# Altium integrated library Libray.IntLib: 16 symbols
Pins are listed as number, name and electrical type; pins without a type are passive.

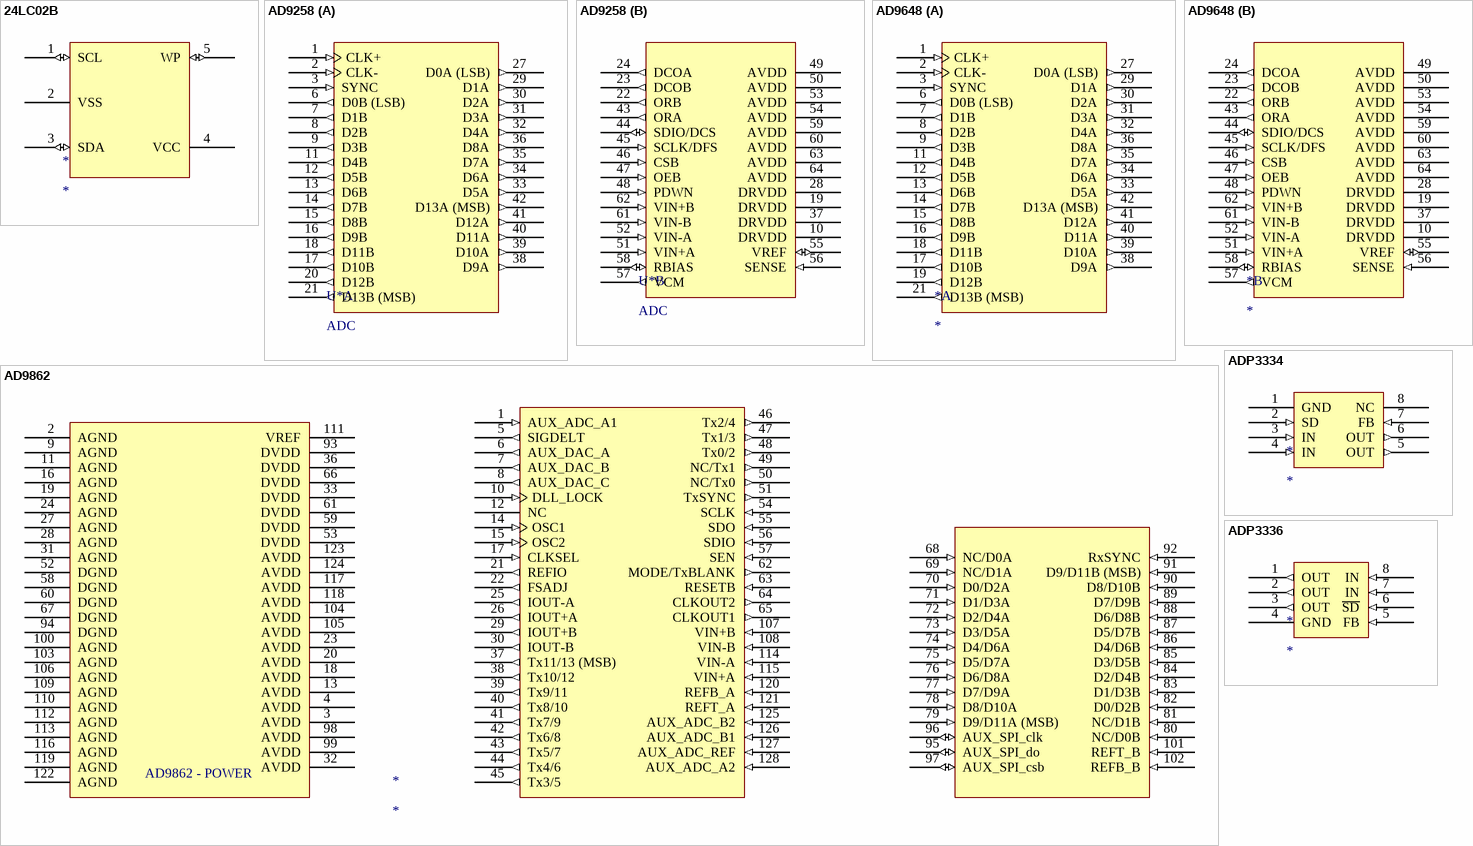
[diagram p0: symbols 24LC02B to ADP3336]

## 24LC02B
designator *
footprint SOT23-6_M (Footprint not found)
pins: 1 SCL (io), 2 VSS (power), 3 SDA (io), 4 VCC (power), 5 WP (io)

## AD9258
designator U*, comment ADC
14-Bit, 80 MSPS/105 MSPS/125 MSPS, 1.8 V Dual  Analog-to-Digital Converter (ADC); ComponentLink1URL: http://www.analog.com/static/imported-files/data_sheets/AD9258.pdf; ComponentLink1Description: Datasheet
footprint QFN50P900X900X100-65V (QFN, 64-Leads, Body 9x9mm, Pitch 0.50mm, AD Recommended)
part A pins: 1 CLK+ (in), 2 CLK- (in), 3 SYNC (in), 6 D0B (LSB) (out), 7 D1B (out), 8 D2B (out), 9 D3B (out), 11 D4B (out), 12 D5B (out), 13 D6B (out), 14 D7B (out), 15 D8B (out), 16 D9B (out), 17 D10B (out), 18 D11B (out), 20 D12B (out), 21 D13B (MSB) (out), 27 D0A (LSB) (out), 29 D1A (out), 30 D2A (out), 31 D3A (out), 32 D4A (out), 33 D5A (out), 34 D6A (out), 35 D7A (out), 36 D8A (out), 38 D9A (out), 39 D10A (out), 40 D11A (out), 41 D12A (out), 42 D13A (MSB) (out)
part B pins: 10 DRVDD (power), 19 DRVDD (power), 22 ORB (out), 23 DCOB (out), 24 DCOA (out), 28 DRVDD (power), 37 DRVDD (power), 43 ORA (out), 44 SDIO/DCS (io), 45 SCLK/DFS (in), 46 CSB (in), 47 OEB (in), 48 PDWN (in), 49 AVDD (power), 50 AVDD (power), 51 VIN+A (in), 52 VIN-A (in), 53 AVDD (power), 54 AVDD (power), 55 VREF (io), 56 SENSE (in), 57 VCM (out), 58 RBIAS (io), 59 AVDD (power), 60 AVDD (power), 61 VIN-B (in), 62 VIN+B (in), 63 AVDD (power), 64 AVDD (power)

## AD9648
designator *
footprint QFN50P900X900X100-65V (QFN, 64-Leads, Body 9x9mm, Pitch 0.50mm, AD Recommended)
part A pins: 1 CLK+ (in), 2 CLK- (in), 3 SYNC (in), 6 D0B (LSB) (out), 7 D1B (out), 8 D2B (out), 9 D3B (out), 11 D4B (out), 12 D5B (out), 13 D6B (out), 14 D7B (out), 15 D8B (out), 16 D9B (out), 17 D10B (out), 18 D11B (out), 19 D12B (out), 21 D13B (MSB) (out), 27 D0A (LSB) (out), 29 D1A (out), 30 D2A (out), 31 D3A (out), 32 D4A (out), 33 D5A (out), 34 D6A (out), 35 D7A (out), 36 D8A (out), 38 D9A (out), 39 D10A (out), 40 D11A (out), 41 D12A (out), 42 D13A (MSB) (out)
part B pins: 10 DRVDD (power), 19 DRVDD (power), 22 ORB (out), 23 DCOB (out), 24 DCOA (out), 28 DRVDD (power), 37 DRVDD (power), 43 ORA (out), 44 SDIO/DCS (io), 45 SCLK/DFS (in), 46 CSB (in), 47 OEB (in), 48 PDWN (in), 49 AVDD (power), 50 AVDD (power), 51 VIN+A (in), 52 VIN-A (in), 53 AVDD (power), 54 AVDD (power), 55 VREF (io), 56 SENSE (in), 57 VCM (out), 58 RBIAS (io), 59 AVDD (power), 60 AVDD (power), 61 VIN-B (in), 62 VIN+B (in), 63 AVDD (power), 64 AVDD (power)

## AD9862
designator *
footprint TSQFP40P1600X1600-128M (Thin QFP, 128-Leads, Body 14x14mm, Pitch 0.4mm, IPC Low Density)
pins: 1 AUX_ADC_A1 (in), 2 AGND (power), 3 AVDD (power), 4 AVDD (power), 5 SIGDELT (out), 6 AUX_DAC_A (out), 7 AUX_DAC_B (out), 8 AUX_DAC_C (out), 9 AGND (power), 10 DLL_LOCK (in), 11 AGND (power), 12 NC, 13 AVDD (power), 14 OSC1 (in), 15 OSC2 (in), 16 AGND (power), 17 CLKSEL (in), 18 AVDD (power), 19 AGND (power), 20 AVDD (power), 21 REFIO (out), 22 FSADJ (out), 23 AVDD (power), 24 AGND (power), 25 IOUT-A (out), 26 IOUT+A (out), 27 AGND (power), 28 AGND (power), 29 IOUT+B (out), 30 IOUT-B (out), 31 AGND (power), 32 AVDD (power), 33 DVDD (power), 36 DVDD (power), 37 Tx11/13 (MSB) (out), 38 Tx10/12 (out), 39 Tx9/11 (out), 40 Tx8/10 (out), 41 Tx7/9 (out), 42 Tx6/8 (out), 43 Tx5/7 (out), 44 Tx4/6 (out), 45 Tx3/5 (out), 46 Tx2/4 (out), 47 Tx1/3 (out), 48 Tx0/2 (out), 49 NC/Tx1 (out), 50 NC/Tx0 (out), 51 TxSYNC (out), 52 DGND (power), 53 DVDD (power), 54 SCLK (in), 55 SDO (in), 56 SDIO (in), 57 SEN (in), 58 DGND (power), 59 DVDD (power), 60 DGND (power), 61 DVDD (power), 62 MODE/TxBLANK (out), 63 RESETB (in), 64 CLKOUT2 (out), 65 CLKOUT1 (out), 66 DVDD, 67 DGND (power), 68 NC/D0A (in), 69 NC/D1A (in), 70 D0/D2A (in), 71 D1/D3A (in), 72 D2/D4A (in), 73 D3/D5A (in), 74 D4/D6A (in), 75 D5/D7A (in), 76 D6/D8A (in), 77 D7/D9A (in), 78 D8/D10A (in), 79 D9/D11A (MSB) (in), 80 NC/D0B (in), 81 NC/D1B (in), 82 D0/D2B (in), 83 D1/D3B (in), 84 D2/D4B (in), 85 D3/D5B (in), 86 D4/D6B (in), 87 D5/D7B (in), 88 D6/D8B (in), 89 D7/D9B (in), 90 D8/D10B (in), 91 D9/D11B (MSB) (in), 92 RxSYNC (in), 93 DVDD (power), 94 DGND (power), 95 AUX_SPI_do (io), 96 AUX_SPI_clk (io), 97 AUX_SPI_csb (io), 98 AVDD (power), 99 AVDD (power), 100 AGND (power), 101 REFT_B (in), 102 REFB_B (in), 103 AGND (power), 104 AVDD (power), 105 AVDD (power), 106 AGND (power), 107 VIN+B (in), 108 VIN-B (in), 109 AGND (power), 110 AGND (power), 111 VREF (power), 112 AGND (power), 113 AGND (power), 114 VIN-A (in), 115 VIN+A (in), 116 AGND (power), 117 AVDD (power), 118 AVDD (power), 119 AGND (power), 120 REFB_A (in), 121 REFT_A (in), 122 AGND (power), 123 AVDD (power), 124 AVDD (power), 125 AUX_ADC_B2 (in), 126 AUX_ADC_B1 (in), 127 AUX_ADC_REF (in), 128 AUX_ADC_A2 (in)
text: AD9862 - POWER

## ADP3334
designator *
footprint SOP8
pins: 1 GND (power), 2 SD (in), 3 IN (in), 4 IN (in), 5 OUT (out), 6 OUT (out), 7 FB (in), 8 NC

## ADP3336
designator *
footprint SOIC127P600-8CM (SOIC, 8-Leads, Body 4.9x3.9mm, Pitch 1.27mm, IPC Low Density)
pins: 1 OUT (out), 2 OUT (out), 3 OUT (out), 4 GND (power), 5 FB (in), 6 ~{SD} (in), 7 IN (in), 8 IN (in)

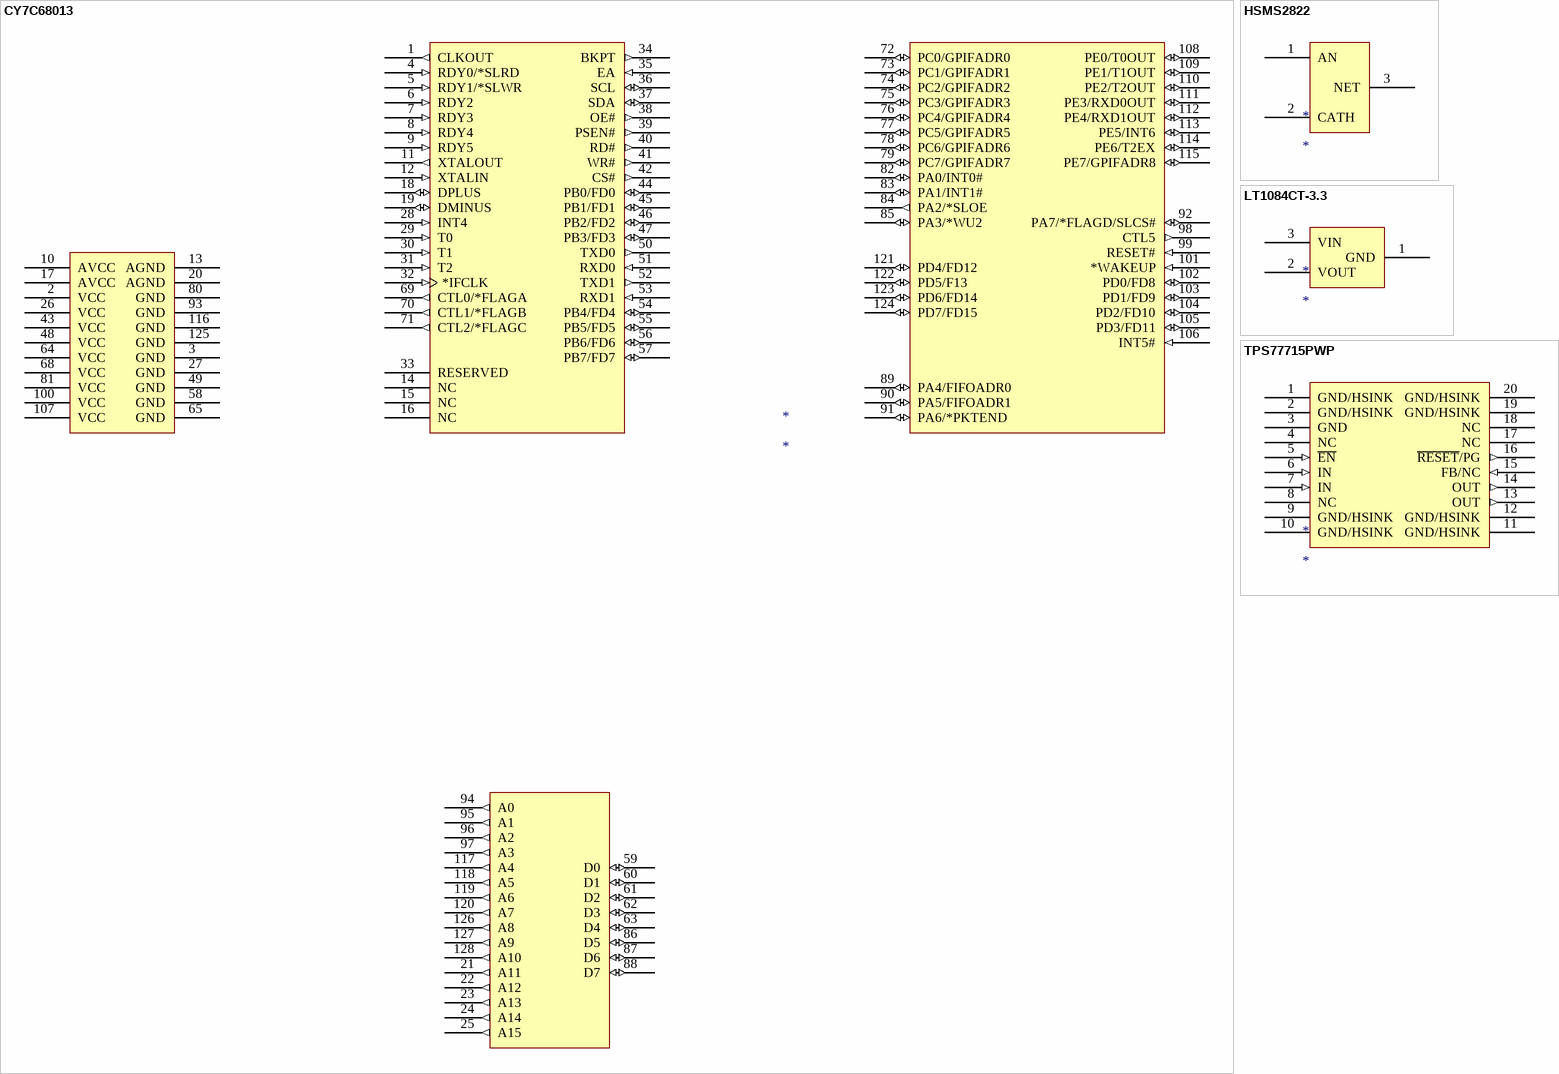
[diagram p1: symbols CY7C68013 to TPS77715PWP]

## CY7C68013
designator *
footprint TSQFP40P1600X1600-128M (Thin QFP, 128-Leads, Body 14x14mm, Pitch 0.4mm, IPC Low Density)
pins: 1 CLKOUT (out), 2 VCC (power), 3 GND (power), 4 RDY0/*SLRD (in), 5 RDY1/*SLWR (in), 6 RDY2 (in), 7 RDY3 (in), 8 RDY4 (in), 9 RDY5 (in), 10 AVCC (power), 11 XTALOUT (out), 12 XTALIN (in), 13 AGND (power), 14 NC, 15 NC, 16 NC, 17 AVCC (power), 18 DPLUS (io), 19 DMINUS (io), 20 AGND (power), 21 A11 (out), 22 A12 (out), 23 A13 (out), 24 A14 (out), 25 A15 (out), 26 VCC (power), 27 GND (power), 28 INT4 (in), 29 T0 (in), 30 T1 (in), 31 T2 (in), 32 *IFCLK (in), 33 RESERVED, 34 BKPT (out), 35 EA (in), 36 SCL (io), 37 SDA (io), 38 OE# (out), 39 PSEN# (out), 40 RD# (out), 41 WR# (out), 42 CS# (out), 43 VCC (power), 44 PB0/FD0 (io), 45 PB1/FD1 (io), 46 PB2/FD2 (io), 47 PB3/FD3 (io), 48 VCC (power), 49 GND (power), 50 TXD0 (out), 51 RXD0 (in), 52 TXD1 (out), 53 RXD1 (in), 54 PB4/FD4 (io), 55 PB5/FD5 (io), 56 PB6/FD6 (io), 57 PB7/FD7 (io), 58 GND (power), 59 D0 (io), 60 D1 (io), 61 D2 (io), 62 D3 (io), 63 D4 (io), 64 VCC (power), 65 GND (power), 68 VCC (power), 69 CTL0/*FLAGA (out), 70 CTL1/*FLAGB (out), 71 CTL2/*FLAGC (out), 72 PC0/GPIFADR0 (io), 73 PC1/GPIFADR1 (io), 74 PC2/GPIFADR2 (io), 75 PC3/GPIFADR3 (io), 76 PC4/GPIFADR4 (io), 77 PC5/GPIFADR5 (io), 78 PC6/GPIFADR6 (io), 79 PC7/GPIFADR7 (io), 80 GND (power), 81 VCC (power), 82 PA0/INT0# (io), 83 PA1/INT1# (io), 84 PA2/*SLOE (out), 85 PA3/*WU2 (io), 86 D5 (io), 87 D6 (io), 88 D7 (io), 89 PA4/FIFOADR0 (io), 90 PA5/FIFOADR1 (io), 91 PA6/*PKTEND (io), 92 PA7/*FLAGD/SLCS# (io), 93 GND (power), 94 A0 (out), 95 A1 (out), 96 A2 (out), 97 A3 (out), 98 CTL5 (out), 99 RESET# (in), 100 VCC (power), 101 *WAKEUP (in), 102 PD0/FD8 (io), 103 PD1/FD9 (io), 104 PD2/FD10 (io), 105 PD3/FD11 (io), 106 INT5# (in), 107 VCC (power), 108 PE0/T0OUT (io), 109 PE1/T1OUT (io), 110 PE2/T2OUT (io), 111 PE3/RXD0OUT (io), 112 PE4/RXD1OUT (io), 113 PE5/INT6 (io), 114 PE6/T2EX (io), 115 PE7/GPIFADR8 (io), 116 GND (power), 117 A4 (out), 118 A5 (out), 119 A6 (out), 120 A7 (out), 121 PD4/FD12 (io), 122 PD5/F13 (io), 123 PD6/FD14 (io), 124 PD7/FD15 (io), 125 GND (power), 126 A8 (out), 127 A9 (out), 128 A10 (out)

## HSMS2822
designator *
footprint SOT23-3M (SOT23, 3-Leads, Body 2.9x1.3mm, Pitch 0.95mm, Lead Span 2.5mm, IPC Low Density)
pins: 1 AN, 2 CATH, 3 NET

## LT1084CT-3.3
designator *
footprint SIP-P3 (SIP; 3 Leads; Body 4.5 x 4.6 x 1.6 mm (typ); Pitch 1.27 mm)
pins: 1 GND, 2 VOUT, 3 VIN

## TPS77715PWP
designator *
footprint SOP20
pins: 1 GND/HSINK (power), 2 GND/HSINK (power), 3 GND (power), 4 NC, 5 ~{EN} (in), 6 IN (in), 7 IN (in), 8 NC, 9 GND/HSINK (power), 10 GND/HSINK (power), 11 GND/HSINK (power), 12 GND/HSINK (power), 13 OUT (out), 14 OUT (out), 15 FB/NC (in), 16 ~{RESET}/PG (out), 17 NC, 18 NC, 19 GND/HSINK (power), 20 GND/HSINK (power)


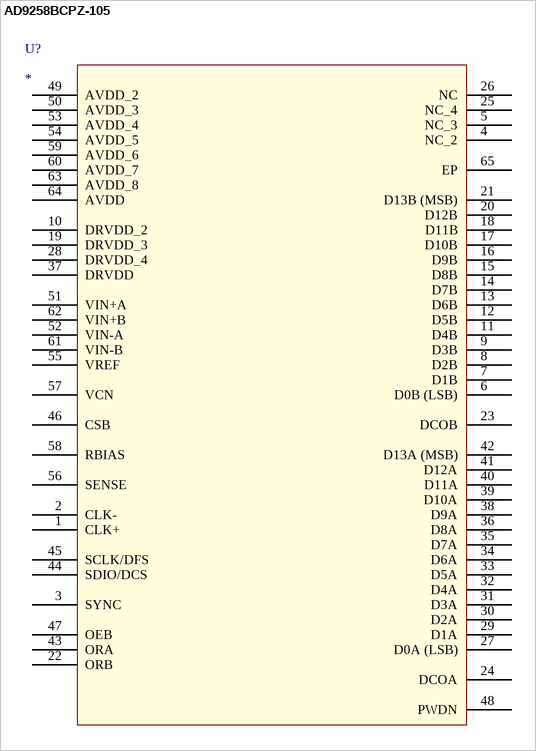
[diagram p2: symbol AD9258BCPZ-105]

## AD9258BCPZ-105
designator U?
14-Bit, 80 MSPS/105 MSPS/125 MSPS, 1.8 V Dual  Analog-to-Digital Converter (ADC); ComponentLink1URL: http://www.analog.com/static/imported-files/data_sheets/AD9258.pdf; ComponentLink1Description: Datasheet
footprint CP_64_4
pins: 1 CLK+, 2 CLK-, 3 SYNC, 4 NC_2, 5 NC_3, 6 D0B (LSB), 7 D1B, 8 D2B, 9 D3B, 10 DRVDD_2, 11 D4B, 12 D5B, 13 D6B, 14 D7B, 15 D8B, 16 D9B, 17 D10B, 18 D11B, 19 DRVDD_3, 20 D12B, 21 D13B (MSB), 22 ORB, 23 DCOB, 24 DCOA, 25 NC_4, 26 NC, 27 D0A (LSB), 28 DRVDD_4, 29 D1A, 30 D2A, 31 D3A, 32 D4A, 33 D5A, 34 D6A, 35 D7A, 36 D8A, 37 DRVDD, 38 D9A, 39 D10A, 40 D11A, 41 D12A, 42 D13A (MSB), 43 ORA, 44 SDIO/DCS, 45 SCLK/DFS, 46 CSB, 47 OEB, 48 PWDN, 49 AVDD_2, 50 AVDD_3, 51 VIN+A, 52 VIN-A, 53 AVDD_4, 54 AVDD_5, 55 VREF, 56 SENSE, 57 VCN, 58 RBIAS, 59 AVDD_6, 60 AVDD_7, 61 VIN-B, 62 VIN+B, 63 AVDD_8, 64 AVDD, 65 EP


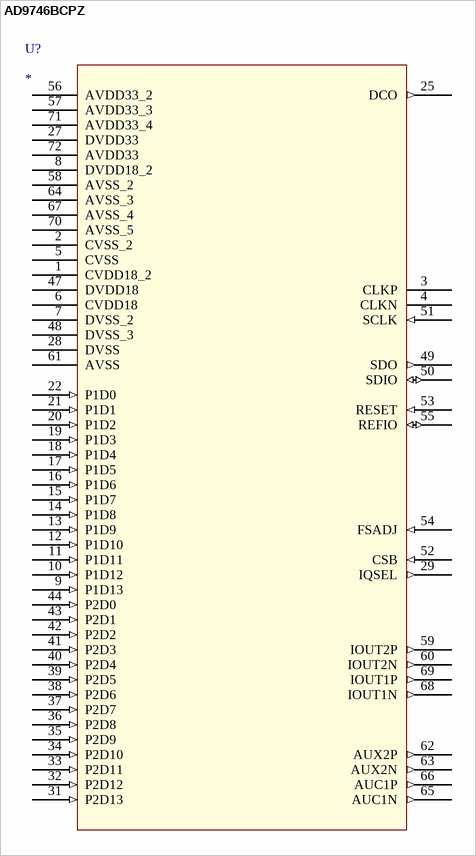
[diagram p3: symbol AD9746BCPZ]

## AD9746BCPZ
designator U?
Dual 14-Bit  250 MSPS Digital-to-Analog Converter; ComponentLink1URL: http://www.analog.com/static/imported-files/data_sheets/AD9741_9743_9745_9746_9747.pdf; ComponentLink1Description: Datasheet
footprint CP_72_1
pins: 1 CVDD18_2 (power) "Clock Supply Voltage (1.8 V)", 2 CVSS_2 (power) "Clock Supply Common (0 V)", 3 CLKP (power) "Differential DAC Clock Input", 4 CLKN (power) "Complementary Differential DAC Clock Input", 5 CVSS (power) "Clock Supply Common (0 V)", 6 CVDD18 (power) "Clock Supply Voltage (1.8 V)", 7 DVSS_2 (power) "Digital Supply Common (0 V)", 8 DVDD18_2 (power) "Digital Core Supply Voltage (1.8 V)", 9 P1D13 (in) "Port 1 Data Bit Inputs", 10 P1D12 (in) "Port 1 Data Bit Inputs", 11 P1D11 (in) "Port 1 Data Bit Inputs", 12 P1D10 (in) "Port 1 Data Bit Inputs", 13 P1D9 (in) "Port 1 Data Bit Inputs", 14 P1D8 (in) "Port 1 Data Bit Inputs", 15 P1D7 (in) "Port 1 Data Bit Inputs", 16 P1D6 (in) "Port 1 Data Bit Inputs", 17 P1D5 (in) "Port 1 Data Bit Inputs", 18 P1D4 (in) "Port 1 Data Bit Inputs", 19 P1D3 (in) "Port 1 Data Bit Inputs", 20 P1D2 (in) "Port 1 Data Bit Inputs", 21 P1D1 (in) "Port 1 Data Bit Inputs", 22 P1D0 (in) "Port 1 Data Bit Inputs", 23 NC_6 hidden, 24 NC_4 hidden, 25 DCO (out) "Data Clock Output. Use to clock data source", 26 NC_3 hidden, 27 DVDD33 (power) "Digital I/O Supply Voltage (3.3 V)", 28 DVSS (power) "Digital Supply Common (0 V)", 29 IQSEL (out) "I/Q Framing Signal for Single-Port Mode Operation", 30 NC_2 hidden, 31 P2D13 (in) "Port 2 Data Bit Inputs", 32 P2D12 (in) "Port 2 Data Bit Inputs", 33 P2D11 (in) "Port 2 Data Bit Inputs", 34 P2D10 (in) "Port 2 Data Bit Inputs", 35 P2D9 (in) "Port 2 Data Bit Inputs", 36 P2D8 (in) "Port 2 Data Bit Inputs", 37 P2D7 (in) "Port 2 Data Bit Inputs", 38 P2D6 (in) "Port 2 Data Bit Inputs", 39 P2D5 (in) "Port 2 Data Bit Inputs", 40 P2D4 (in) "Port 2 Data Bit Inputs", 41 P2D3 (in) "Port 2 Data Bit Inputs", 42 P2D2 (in) "Port 2 Data Bit Inputs", 43 P2D1 (in) "Port 2 Data Bit Inputs", 44 P2D0 (in) "Port 2 Data Bit Inputs", 45 NC_7 hidden, 46 NC_5 hidden, 47 DVDD18 (power) "Digital Core Supply Voltage (1.8 V)", 48 DVSS_3 (power) "Digital Supply Common (0 V)", 49 SDO (out) "Serial Peripheral Interface Data Output", 50 SDIO (io) "Serial Peripheral Interface Data Input and Optional Data Output", 51 SCLK (in) "Serial Peripheral Interface Clock Input", 52 CSB (in) "Serial Peripheral Interface Chip Select Input. Active low", 53 RESET (in) "Hardware Reset. Active high", 54 FSADJ (in) "Full-Scale Current Output Adjust. Connect a 10 kO resistor to AVSS", 55 REFIO (io) "Reference Input/Output. Connect a 0.1 µF capacitor to AVSS", 56 AVDD33_2 (power) "Analog Supply Voltage (3.3 V)", 57 AVDD33_3 (power) "Analog Supply Voltage (3.3 V)", 58 AVSS_2 (power) "Analog Supply Common (0 V)", 59 IOUT2P (out) "DAC2 Current Output True. Sources full-scale current when input data bits are all 1.", 60 IOUT2N (out) "DAC2 Current Output Complement. Sources full-scale current when data bits are all 0", 61 AVSS (power) "Analog Supply Common (0 V)", 62 AUX2P (out) "Auxiliary DAC2 Default Current Output Pin", 63 AUX2N (out) "Auxiliary DAC2 Optional Output Pin. Enable through SPI", 64 AVSS_3 (power) "Analog Supply Common (0 V)", 65 AUC1N (out) "Auxiliary DAC1 Optional Output Pin. Enable through SPI", 66 AUC1P (out) "Auxiliary DAC1 Default Current Output Pin", 67 AVSS_4 (power) "Analog Supply Common (0 V)", 68 IOUT1N (out) "Complementary DAC1 Current Output. Sources full-scale current when data bits are all 0.", 69 IOUT1P (out) "DAC1 Current Output. Sources full-scale current when data bits are all 1", 70 AVSS_5 (power) "Analog Supply Common (0 V)", 71 AVDD33_4 (power) "Analog Supply Voltage (3.3 V)", 72 AVDD33 (power) "Analog Supply Voltage (3.3 V)", 73 EP hidden "Exposed Thermal Pad. Must be soldered to copper pour on top surface of PCB for mechanical stability and must be electrically tied to low impedance GND plane for low noise performance"


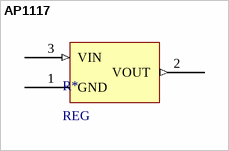
[diagram p4: symbol AP1117]

## AP1117
designator R*, comment REG
1A LOW DROPOUT POSITIVE ADJUSTABLE OR FIXED-MODE REGULATOR; ComponentLink1URL: http://www.diodes.com/datasheets/AP1117.pdf; ComponentLink1Description: Datasheet
footprint SOT230P700-4M (SOT223, 4-Leads, Body 6.5x3.5mm, Pitch 2.3mm, Lead Span 7mm, IPC Low Density)
pins: 1 GND (power), 2 VOUT (out), 3 VIN (in)


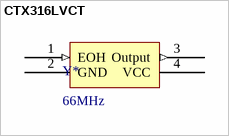
[diagram p5: symbol CTX316LVCT]

## CTX316LVCT
designator Y*, comment 66MHz
OSC 66.0000 MHZ 3.3V SMD; ComponentLink1URL: http://www.ctscorp.com/components/Datasheets/008-0256-0_F.pdf; ComponentLink1Description: Datasheet
footprint 4-SMD
pins: 1 EOH (in), 2 GND (power), 3 Output (out), 4 VCC (power)


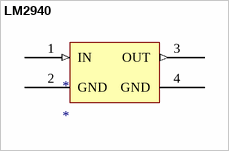
[diagram p6: symbol LM2940]

## LM2940
designator *
LM2940 1A Low Dropout Regulator; ComponentLink1URL: https://www.national.com/ds/LM/LM2940.pdf; ComponentLink1Description: Datasheet
footprint SOT230P700-4BM (SOT223, 4-Leads, Body 6.5x3.5mm, Pitch 2.3mm, Lead Span 7mm, IPC Low Density)
pins: 1 IN (in), 2 GND (power), 3 OUT (out), 4 GND (power)


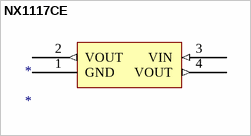
[diagram p7: symbol NX1117CE]

## NX1117CE
designator *
Low-dropout linear regulator; ComponentLink1URL: http://www.nxp.com/documents/data_sheet/NX1117C_NX1117CE_SER.pdf; ComponentLink1Description: Datasheet
footprint SOT223_L (Footprint not found)
pins: 1 GND (power), 2 VOUT (out), 3 VIN (in), 4 VOUT (out)